# Altium footprint library Optoisolator.PcbLib: 1 footprints
Each footprint in its own frame and in the unit in brackets; x right, y up, seen from the top. Pads: shape width x height; smd on the part's side, far side on the other; paste and mask are expansions set on the pad; w line width, h text height; cw(c..) or ccw(c..) is an arc to the next point about the centre after c.
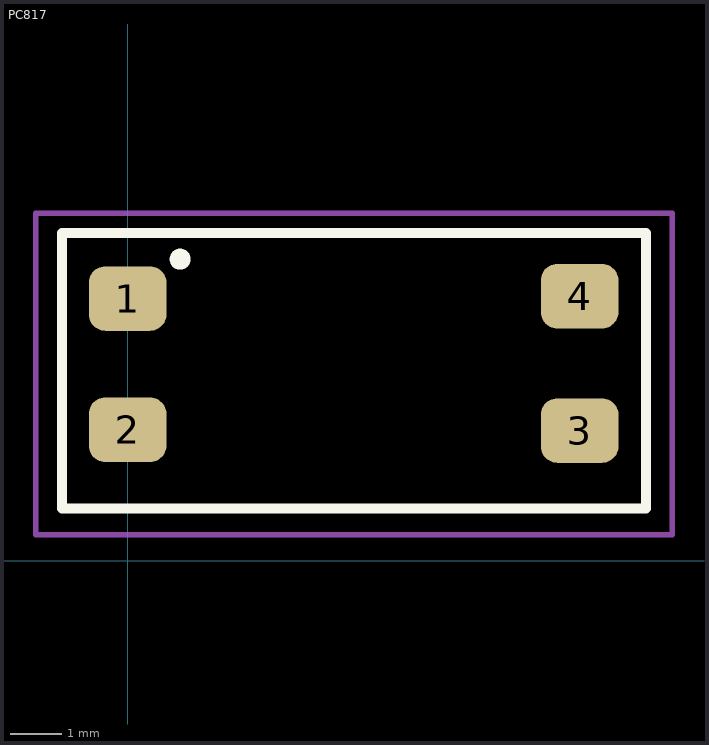
[diagram p0: the footprint, top view; thin cyan lines are the x and y axes]

## PC817 [mm] "SOP-4"
pads (4):
  rrect50% 1.5x1.25 smd mask+0.102: 1(0,5.08) 2(0,2.54) 3(8.75,2.525) 4(8.75,5.125)
Top Overlay:
  circle w0.254: c1.016,5.842 r0.076
  lines w0.2: -1.27,1.016 -1.27,6.35 10.033,6.35 10.033,1.016 -1.27,1.016
Mechanical 3:
  lines w0.1: -1.778,0.508 -1.778,6.731 10.541,6.731 10.541,0.508 -1.778,0.508
3D body "User Library-PC817_Gullwing.STEP": height 3.85, standoff 0, extent -0.65,1.485 9.35,6.065